# EAGLE library part DF13-6 (library Taylor)
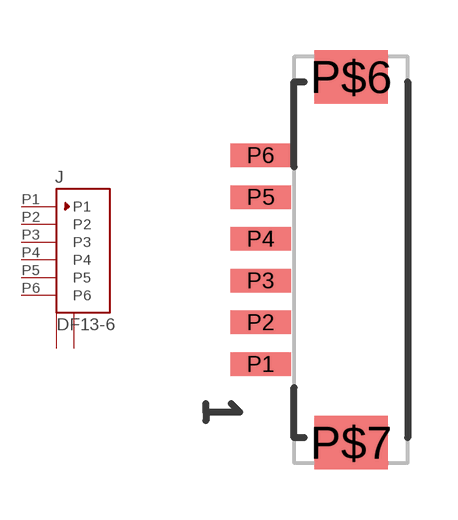
[diagram p35: symbol with the pads of DF13-6-VERT; footprint DF13-6-VERT]

Designator prefix J

## DF13-6  [DF13-6-VERT]
P1  P1
P2  P2
P3  P3
P4  P4
P5  P5
P6  P6
P$6  P$1
P$7  P$2

## Footprint DF13-6-VERT (pad centres in mm)
smd 1.8 x 0.7: P1 -2.15,-3.125; P2 -2.15,-1.875; P3 -2.15,-0.625; P4 -2.15,0.625; P5 -2.15,1.875; P6 -2.15,3.125
smd 2.2 x 1.6: P$6 0.55,5.475; P$7 0.55,-5.475